# Altium schematic symbol library Divers.SchLib: 17 symbols
Pins are listed as number, name and electrical type; pins without a type are passive.

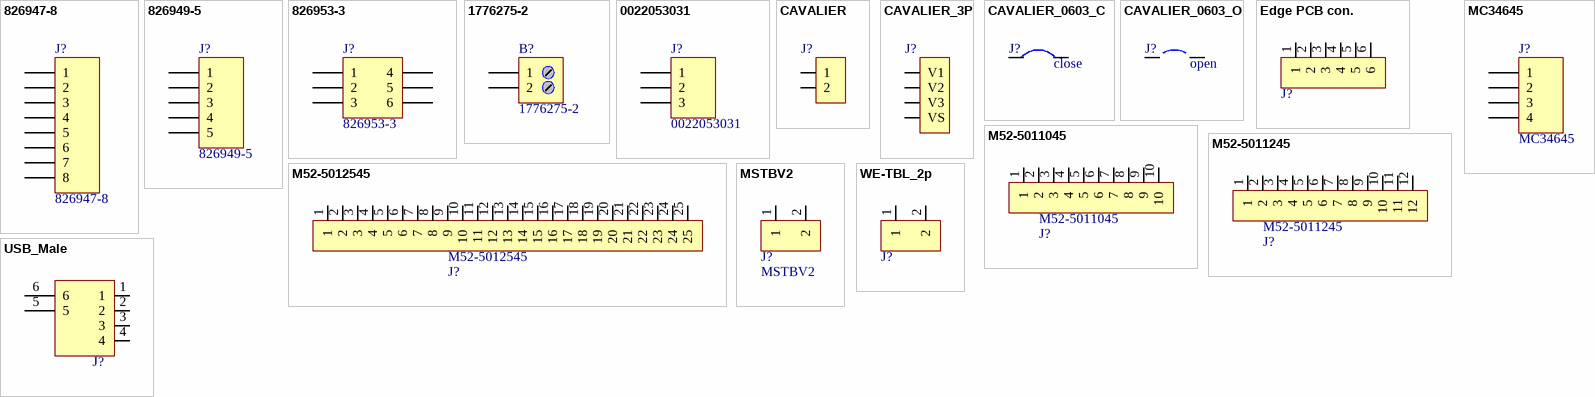
[diagram p0: symbols 826947-8 to WE-TBL_2p]

## 826947-8
designator J?
CONN HEADER BRKWY R/A 8POS TIN; Manufacturer: TE Connectivity AMP Connectors; Supplier 1: Farnell; Manufacturer Part Number: 826947-8; ComponentLink1URL: http://www.te.com/commerce/DocumentDelivery/DDEController?Action=srchrtrv&DocNm=826629&DocType=Customer+Drawing&DocLang=English; ComponentLink1Description: http://www.te.com/commerce/DocumentDelivery/DDEController?Action=srchrtrv&DocNm=826629&DocType=Customer+Drawing&DocLang=English; Supplier Part Number 1: 1248174
footprint HDR1X8
pins: 1, 2, 3, 4, 5, 6, 7, 8

## 826949-5
designator J?
CONN HEADER BRKWY 5POS R/A TIN; Manufacturer: TE Connectivity AMP Connectors; Supplier 1: Farnell; Manufacturer Part Number: 826949-5; ComponentLink1URL: http://www.te.com/commerce/DocumentDelivery/DDEController?Action=srchrtrv&DocNm=826629&DocType=Customer+Drawing&DocLang=English; ComponentLink1Description: http://www.te.com/commerce/DocumentDelivery/DDEController?Action=srchrtrv&DocNm=826629&DocType=Customer+Drawing&DocLang=English; Supplier Part Number 1: 1248179
footprint HDR1X5
pins: 1, 2, 3, 4, 5

## 826953-3
designator J?
CONN HEADER BRKWY 6POS R/A TIN; Manufacturer: TE Connectivity AMP Connectors; Supplier 1: Farnell; Supplier Part Number 1: 1248186; Manufacturer Part Number: 826953-3; ComponentLink1URL: http://www.te.com/commerce/DocumentDelivery/DDEController?Action=srchrtrv&DocNm=826629&DocType=Customer+Drawing&DocLang=English; ComponentLink1Description: http://www.te.com/commerce/DocumentDelivery/DDEController?Action=srchrtrv&DocNm=826629&DocType=Customer+Drawing&DocLang=English; Pricing: 10=0.221, 50=0.207, 500=0.195, 1000=0.186, 2500=0.179, 5000=0.172 (EUR)
footprint HDR2X3
pins: 1, 2, 3, 4, 5, 6

## 1776275-2
designator B?
TERM BLOCK 2POS SIDE ENT 3.5MM; Manufacturer: TE Connectivity AMP Connectors; Supplier 1: Farnell; Supplier Part Number 1: 1098611; Manufacturer Part Number: 1776275-2; ComponentLink1URL: http://www.te.com/commerce/DocumentDelivery/DDEController?Action=srchrtrv&DocNm=1776275&DocType=Customer+Drawing&DocLang=English; ComponentLink1Description: http://www.te.com/commerce/DocumentDelivery/DDEController?Action=srchrtrv&DocNm=1776275&DocType=Customer+Drawing&DocLang=English
footprint BORNIER_2V_3.5MM
pins: 1, 2

## 0022053031
designator J?
CONN HEADER 3POS .100 R/A TIN; Manufacturer: Molex, LLC; Supplier 1: Farnell; Supplier Part Number 1: 1462932; Manufacturer Part Number: 0022053031; ComponentLink1URL: http://www.molex.com/pdm_docs/sd/022053031_sd.pdf; ComponentLink1Description: http://www.molex.com/pdm_docs/sd/022053031_sd.pdf
footprint HDR1X3
pins: 1, 2, 3

## CAVALIER
designator J?  (value not drawn)
Manufacturer 1: homemade; Manufacturer Port Number: *; Supplier 1: homemade; Supplier Part Number 1: *
footprint CAVALIER (Connection personnalisé pour bord de carte)
footprint CAVALIER tranversant (Connection personnalisé pour bord de carte)
pins: 1, 2

## CAVALIER_3P
designator J?, comment CAVALIER_4P  (value not drawn)
Manufacturer 1: homemade; Manufacturer Port Number: *; Supplier 1: homemade; Supplier Part Number 1: *
footprint CAVALIER_3P (Connection personnalisé pour bord de carte)
pins: 1 V1, 2 V2, 3 V3, 4 VS

## CAVALIER_0603_C
designator J?, comment close  (no BOM)
Cavalier soudure "fermé" + empreinte dipole 0603
footprint CAVALIER_0603_C (Jumper ferme)
pins: 1, 2

## CAVALIER_0603_O
designator J?, comment open  (no BOM)
Cavalier soudure "ouvert" + empreinte dipole 0603
footprint CAVALIER_0603_O (Jumper ouvert)
pins: 1, 2

## Edge PCB con.
designator J?  (value not drawn)
Connecteur personnalisé pour soudure à 90° de carte
footprint Edge solder junction (Connection personnalisé pour bord de carte)
pins: 1, 2, 3, 4, 5, 6

## M52-5011045
designator J?
Manufacturer 1: MULTICOMP; Manufacturer Part Number: 2206SA-10-46; Supplier 1: Farnell; Supplier Part Number 1: 1577767; Pricing: 5=0.98, 25=0.95, 100=0.93, 250=0.87, 500=0.82, 3000=0.738, 3000=0.664, 30000=0.598 (EUR); ComponentLink1URL: http://www.farnell.com/datasheets/1662389.pdf; ComponentLink1Description: http://www.farnell.com/datasheets/1662389.pdf
footprint M52-5011045
pins: 1, 2, 3, 4, 5, 6, 7, 8, 9, 10

## M52-5011245
designator J?
footprint M52-5011245
pins: 1, 2, 3, 4, 5, 6, 7, 8, 9, 10, 11, 12

## M52-5012545
designator J?
Manufacturer 1: MULTICOMP; Manufacturer Part Number: 2206SA-25-46; Supplier 1: Farnell; Supplier Part Number 1: 1577769; Pricing: 5=2.31, 25=2.23, 100=2.17, 250=2.06, 500=1.95, 900=1.76, 900=1.58, 9000=1.42 (EUR); ComponentLink1URL: http://www.farnell.com/datasheets/1662389.pdf; ComponentLink1Description: http://www.farnell.com/datasheets/1662389.pdf
footprint M52-50125245_TOP
footprint M52-50125245_Bottom
pins: 1, 2, 3, 4, 5, 6, 7, 8, 9, 10, 11, 12, 13, 14, 15, 16, 17, 18, 19, 20, 21, 22, 23, 24, 25

## MC34645
designator J?
MULTICOMP - MC34645 - EMB. MALE COUDEE  CON. MALE 2.54MM 4VOIE; Supplier 1: Farnell; Manufacturer: MULTICOMP; Manufacturer Part Number: MC34645; ComponentLink1URL: http://www.farnell.com/datasheets/1751312.pdf; ComponentLink1Description: http://www.farnell.com/datasheets/1751312.pdf; Pricing: 1=0.597, 5=0.531, 25=0.465, 50=0.399, 100=0.334, 250=0.138 (EUR); Supplier Part Number 1: 1675775
footprint HDR1X4
pins: 1, 2, 3, 4

## MSTBV2
designator J?
Manufacturer 1: PHOENIX CONTACT; Manufacturer Part Number: MSTBV 2,5/2-GF-5.08; Supplier 1: Farnell; Supplier Part Number 1: 1792792; Pricing: 1=2.61, 10=2.27, 50=1.9, 100=1.71, 250=1.63, 400=1.47, 400=1.32, 4000=1.19 (EUR); ComponentLink1URL: http://www.farnell.com/datasheets/528161.pdf; ComponentLink1Description: http://www.farnell.com/datasheets/528161.pdf
footprint MSTBV2
pins: 1, 2

## USB_Male
designator J?  (value not drawn)
USB A MALE 4 VOIES CMS; Manufacturer 1: MOLEX; Manufacturer part Number: 48037-2200; Supplier 1: Farnell; Supplier Part Number 1: 2313729
footprint USB-A_Male_CMS
footprint USB-B_Top-Entry
pins: 1, 2, 3, 4, 5, 6

## WE-TBL_2p
designator J?  (value not drawn)
Wurth Electronik - WR-TBL; Manufacturer 1: WURTH ELEKTRONIK; Manufacturer Part Number: 691311500102; value: 2pin; Supplier 1: Farnell; Supplier Part Number 1: 1641978; Pricing: 1=0.291, 10=0.245, 50=0.218, 100=0.206, 250=0.194, 600=0.181 (EUR); ComponentLink1URL: http://www.farnell.com/datasheets/1442493.pdf; ComponentLink1Description: http://www.farnell.com/datasheets/1442493.pdf
footprint WE-TBL_2p_Ser.313 (ref 691313510002)
pins: 1, 2